# EAGLE library part ALPINE-FP-20 (library con-alpine)
Alpine front panel connector
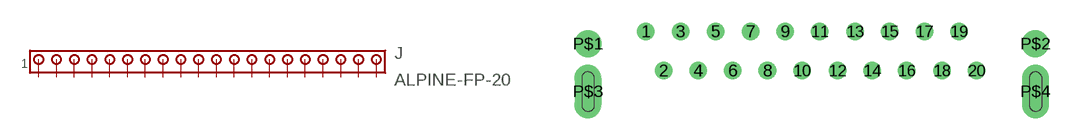
[diagram p0: symbol with the pads of ALPINE-FP-20; footprint ALPINE-FP-20]

Designator prefix J

## ALPINE-FP-20  [ALPINE-FP-20]
1  1  pas
2  2  pas
3  3  pas
4  4  pas
5  5  pas
6  6  pas
7  7  pas
8  8  pas
9  9  pas
10  10  pas
11  11  pas
12  12  pas
13  13  pas
14  14  pas
15  15  pas
16  16  pas
17  17  pas
18  18  pas
19  19  pas
20  20  pas

## Footprint ALPINE-FP-20 (pad centres in mm)
Alpine front panel connector
drill 0.65: 1 -9.865,1.37; 2 -8.695,-1.22; 3 -7.575,1.37; 4 -6.405,-1.22; 5 -5.235,1.37; 6 -4.115,-1.22; 7 -2.945,1.37; 8 -1.825,-1.22; 9 -0.655,1.37; 10 0.465,-1.22; 11 1.635,1.37; 12 2.805,-1.22; 13 3.975,1.37; 14 5.095,-1.22; 15 6.265,1.37; 16 7.385,-1.22; 17 8.555,1.37; 18 9.725,-1.22; 19 10.845,1.37; 20 12.015,-1.22
drill 0.8 pad 1.778: P$1 -13.7,0.55; P$2 15.9,0.55
drill 0.8 pad 1.778 long: P$3 -13.7,-2.6; P$4 15.9,-2.6